# Altium footprint library SparkFun-Resistors.PCBLIB: 28 footprints (part 1 of 2)
Each footprint in its own frame and in the unit in brackets; x right, y up, seen from the top. Pads: shape width x height; smd on the part's side, far side on the other; paste and mask are expansions set on the pad; w line width, h text height; cw(c..) or ccw(c..) is an arc to the next point about the centre after c.
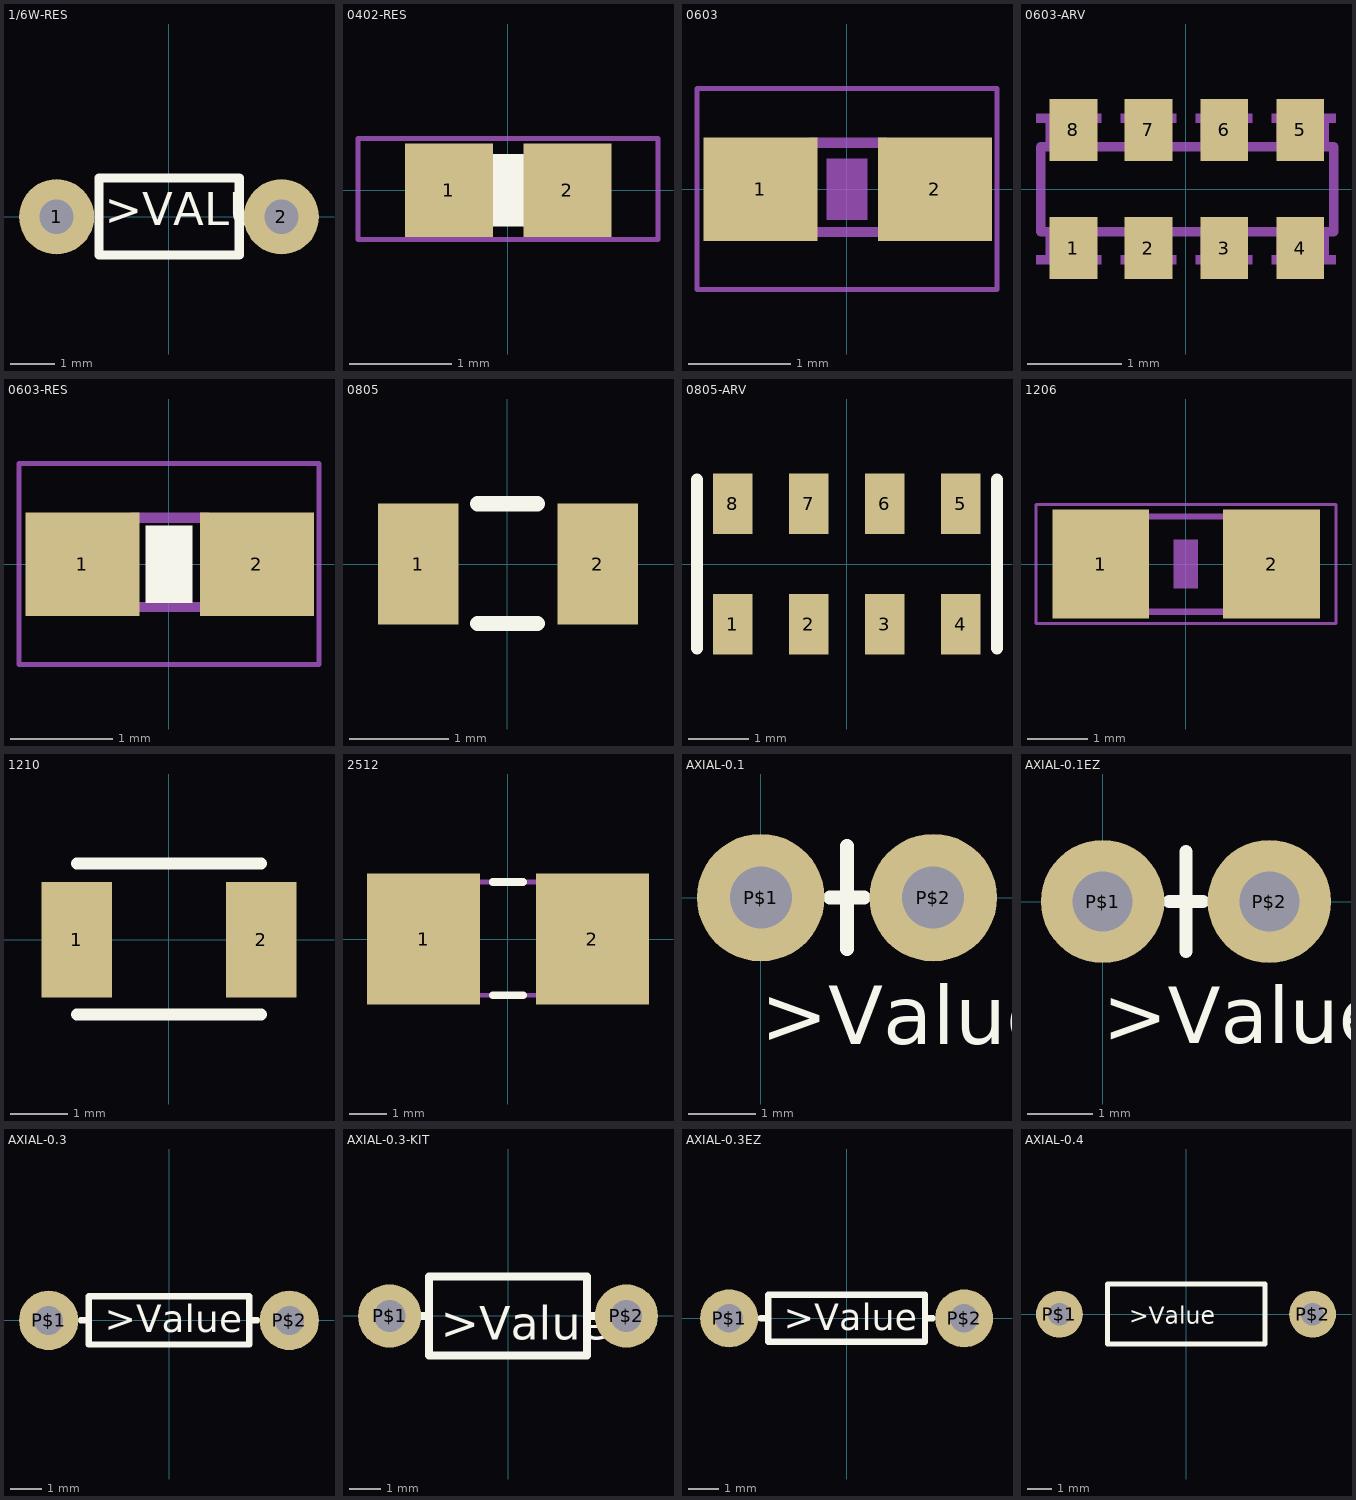
[diagram p0: the footprints below, top view; thin cyan lines are the x and y axes]

## 1/6W-RES [mil]
pads (2):
  round 66 hole 30: 1(-98.43,0) 2(99,0)
Top Overlay:
  lines w8: -61.02,-33.46 -61.02,34 62,34 62,-33.46 -61.02,-33.46
  text ">VALUE" at -56.02,-16.87 h49.6
Mechanical 2:
  text ">NAME" at -49.85,38 h37.2

## 0402-RES [mil]
pads (2):
  rect 34x36 smd: 1(-22.83,0) 2(23,0)
Top Overlay:
  rectangle: -8,-14 8,14
Mechanical 2:
  text ">NAME" at -35,28 h24.8
Mechanical 4:
  text ">VALUE" at -42.5,-45 h24.8
Mechanical 6:
  rectangle: -7.87,-11.81 8,12
Mechanical 16:
  rectangle: -21.81,-12 -10,12
  rectangle: 11,-12 22,12
  lines w6: -9.65,-8.82 10,-8.82 ; -9.65,9 10,9
Mechanical 27:
  lines w2: -57.99,-19.02 58,-19.02 58,20 -57.99,20 -57.99,-19.02

## 0603 [mil]
pads (2):
  rect 44x40 smd: 1(-33.46,0) 2(34,0)
Mechanical 2:
  text ">NAME" at -35,30 h13.6
Mechanical 4:
  text ">VALUE" at -40,-45 h13.6
Mechanical 6:
  rectangle: -7.87,-11.81 8,12
Mechanical 16:
  rectangle: -33,-18.5 -13.31,19
  rectangle: 13,-18.5 33,19
  lines w4: -14.02,-16.5 15,-16.5 ; -14.02,18 15,18
Mechanical 27:
  lines w2: -57.99,-38.7 58,-38.7 58,39 -57.99,39 -57.99,-38.7

## 0603-ARV [mil]
pads (8):
  rect 20x26 smd: 1(-47.24,-24.61) 2(-15.75,-24.61) 3(16,-24.61) 4(48,-24.61) 5(48,25) 6(16,25) 7(-15.75,25) 8(-47.24,25)
Mechanical 2:
  text ">NAME" at -75,-100 h77.5
Mechanical 4:
  text ">VALUE" at -75,50 h77.5
Mechanical 16:
  rectangle: -62.99,28 -35.43,32
  rectangle: -27.56,28 -3.94,32
  rectangle: 4,28 28,32
  rectangle: 36,28 63,32
  rectangle: -59.06,20 -37.4,28
  rectangle: -25.59,20 -5.91,28
  rectangle: 6,20 26,28
  rectangle: 38,20 60,28
  rectangle: 36,-31.5 63,-27.56
  rectangle: 4,-31.5 28,-27.56
  rectangle: -27.56,-31.5 -3.94,-27.56
  rectangle: -62.99,-31.5 -35.43,-27.56
  rectangle: 38,-27.56 60,-19.68
  rectangle: 6,-27.56 26,-19.68
  rectangle: -25.59,-27.56 -5.91,-19.68
  rectangle: -59.06,-27.56 -37.4,-19.68
  lines w4: -61.02,-17.72 -61.02,18 62,18 62,-17.72 -61.02,-17.72

## 0603-RES [mil]
pads (2):
  rect 44x40 smd: 1(-33.46,0) 2(34,0)
Top Overlay:
  rectangle: -9,-15 9,15
Mechanical 2:
  text ">NAME" at -35,30 h13.6
Mechanical 4:
  text ">VALUE" at -40,-45 h13.6
Mechanical 6:
  rectangle: -7.87,-11.81 8,12
Mechanical 16:
  rectangle: -33,-18.5 -13.31,19
  rectangle: 13,-18.5 33,19
  lines w4: -14.02,-16.5 15,-16.5 ; -14.02,18 15,18
Mechanical 27:
  lines w2: -57.99,-38.7 58,-38.7 58,39 -57.99,39 -57.99,-38.7

## 0805 [mil]
pads (2):
  rect 32x48 smd: 1(-35.43,0) 2(36,0)
Top Overlay:
  lines w6: -11.81,-23.62 12,-23.62 ; -11.81,24 12,24
Mechanical 2:
  text ">NAME" at -30,33 h24.8
Mechanical 4:
  text ">VALUE" at -40,-55 h24.8

## 0805-ARV [mil]
pads (8):
  rect 26x40 smd: 1(-75,-39.37) 2(-25,-39.37) 3(25,-39.37) 4(75,-39.37) 5(75,40) 6(25,40) 7(-25,40) 8(-75,40)
Top Overlay:
  lines w8: -98.43,-55.12 -98.43,56 ; 99,-55.12 99,56
Mechanical 2:
  text ">NAME" at -106.3,-62.99 h27.2
Mechanical 4:
  text ">VALUE" at 138,-59.06 h27.2

## 1206 [mil]
pads (2):
  rect 63x71 smd: 1(-55.12,0) 2(56,0)
Mechanical 2:
  text ">NAME" at -50,45 h24.8
Mechanical 4:
  text ">VALUE" at -55,-60 h24.8
Mechanical 6:
  rectangle: -7.87,-15.75 8,16
Mechanical 16:
  rectangle: -67,-33.5 -37.47,34
  rectangle: 38,-33.43 67,34
  lines w4: -37.99,-30.98 38,-30.98 ; -37.99,31 38,31
Mechanical 27:
  lines w2: -97.36,-38.7 98,-38.7 98,39 -97.36,39 -97.36,-38.7

## 1210 [mil]
pads (2):
  rect 48x79 smd: 1(-62.99,0) 2(63,0)
Top Overlay:
  lines w8: -62.99,-51.18 63,-51.18 ; -62.99,52 63,52
Mechanical 2:
  text ">NAME" at -70,60 h27.2
Mechanical 4:
  text ">VALUE" at -60,-90 h27.2

## 2512 [mil]
pads (2):
  rect 119x138 smd: 1(-88.58,0) 2(89,0)
Top Overlay:
  lines w8: -15.75,-59.06 16,-59.06 ; -15.75,60 16,60
Mechanical 2:
  text ">Name" at 40,119 h31
Mechanical 4:
  text ">Value" at 40,79 h31
Mechanical 16:
  lines w5: -49.02,-59.06 50,-59.06 ; -49.02,-59.06 -125,-59.06 -125,60 -49.02,60 ; -49.02,-59.06 -49.02,60 ; -49.02,60 50,60 ; 50,-59.06 125,-59.06 125,60 50,60 ; 50,-59.06 50,60

## AXIAL-0.1 [mil]
pads (2):
  round 74 hole 36: P$1(0,0) P$2(100,0)
Top Overlay:
  lines w8: 40,0 50,0 ; 50,-30 50,0 ; 50,30 50,0 ; 60,0 50,0
  text ">Value" at 0,-85 h34
Mechanical 2:
  text ">Name" at 0,50 h34

## AXIAL-0.1EZ [mil]
pads (2):
  round 74 hole 36: P$1(0,0) P$2(100,0)
Top Overlay:
  lines w8: 40,0 50,0 ; 50,-30 50,0 ; 50,30 50,0 ; 60,0 50,0
  text ">Value" at 0,-85 h34
Top Solder:
  circle w0: c0,0 r18
  circle w0: c0,0 r18
  circle w0: c100,0 r18
Bottom Solder:
  circle w0: c0,0 r40
  circle w0: c100,0 r40
Mechanical 2:
  text ">Name" at 0,50 h34

## AXIAL-0.3 [mil]
pads (2):
  round 74 hole 36: P$1(-150,0) P$2(150,0)
Top Overlay:
  lines w8: -110,0 -100,0 ; 110,0 100,0 ; -100,0 -100,-30 100,-30 100,0 ; -100,0 -100,30 100,30 100,0
  text ">Value" at -80,-15 h34
Mechanical 2:
  text ">Name" at -100,50 h13.6

## AXIAL-0.3-KIT [mil]
pads (2):
  round 80 hole 40: P$1(-150,0) P$2(150,0)
Top Overlay:
  lines w10: -110,0 -100,0 ; 110,0 100,0 ; -100,0 -100,-50 100,-50 100,0 ; -100,0 -100,50 100,50 100,0
  text ">Value" at -85,-30 h42.5
Top Solder:
  region: 0,0 10,0 10,10 0,10
  region: 0,0 10,0 10,10 0,10
Bottom Solder:
  region: 0,0 10,0 10,10 0,10
  region: 0,0 10,0 10,10 0,10
Mechanical 2:
  text ">Name" at -100,50 h13.6

## AXIAL-0.3EZ [mil]
pads (2):
  round 74 hole 36: P$1(-150,0) P$2(150,0)
Top Overlay:
  lines w8: -110,0 -100,0 ; 110,0 100,0 ; -100,0 -100,-30 100,-30 100,0 ; -100,0 -100,30 100,30 100,0
  text ">Value" at -80,-15 h34
Top Solder:
  circle w0: c-150,0 r20
  circle w0: c150,0 r21
Bottom Solder:
  circle w0: c-150,0 r41
  circle w0: c150,0 r42
Mechanical 2:
  text ">Name" at -100,50 h13.6

## AXIAL-0.4 [mil]
pads (2):
  round 74 hole 36: P$1(-200,0) P$2(200,0)
Top Overlay:
  lines w8: -124.02,-47.24 -124.02,48 125,48 125,-47.24 -124.02,-47.24
  text ">Value" at -90,-15 h27.2
Mechanical 2:
  text ">Name" at -125,75 h27.2